# Altium schematic symbol library schematic.SchLib: 23 symbols
Pins are listed as number, name and electrical type; pins without a type are passive.

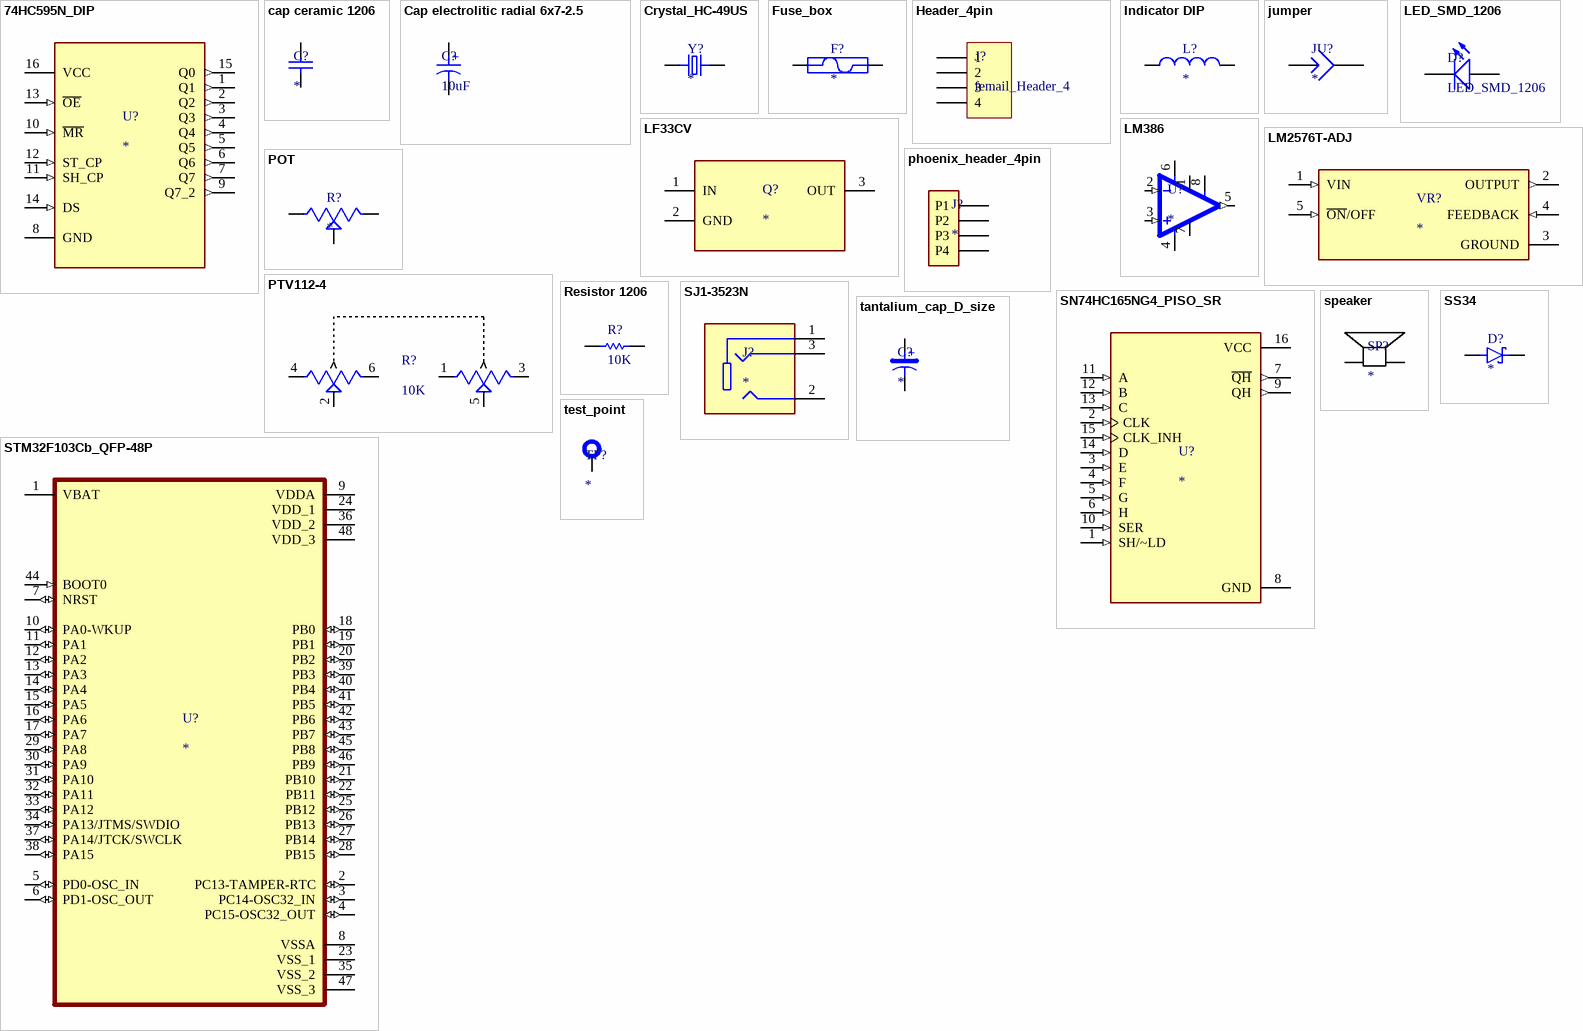
[diagram p0: symbols 74HC595N_DIP to test_point]

## 74HC595N_DIP
designator U?
Shift Shift Register 1 Element 8 Bit 16-DIP
footprint 74HC595N_DIP
pins: 1 Q1 (out), 2 Q2 (out), 3 Q3 (out), 4 Q4 (out), 5 Q5 (out), 6 Q6 (out), 7 Q7 (out), 8 GND, 9 Q7_2 (out), 10 ~{MR} (in), 11 SH_CP (in), 12 ST_CP (in), 13 ~{OE} (in), 14 DS (in), 15 Q0 (out), 16 VCC (power)

## cap ceramic 1206
designator C?
footprint cap ceramic 1206
pins: 1, 2

## Cap electrolitic radial 6x7-2.5
designator C?, comment 10uF
Cap electrolitic radial 6x7-2.5
footprint capacity
pins: 1, 2
text: +

## Crystal_HC-49US
designator Y?
footprint Crystal_HC-49US
pins: 1, 2

## Fuse_box
designator F?
Fuse + Fuse box dip
footprint Fuse_box
pins: 1, 2

## Header_4pin
designator J?, comment femail_Header_4
footprint femail_Header_4pin
pins: 1, 2, 3, 4

## Indicator DIP
designator L?
footprint Indicator_DIP
pins: 1, 2

## jumper
designator JU?
footprint jumper
pins: 1, 2

## LED_SMD_1206
designator D?
footprint LED_SMD_1206
pins: 1 K, 2 A

## LF33CV
designator Q?
Linear Voltage Regulator IC Positive Fixed 1 Output 500mA TO-220
footprint LF33CV_TO220_3
pins: 1 IN (power), 2 GND, 3 OUT (power)

## LM386
designator U?
footprint LM386
pins: 1 GAIN@1 (io), 2 -IN (in), 3 +IN (in), 4 V- (power), 5 OUT (out), 6 V+ (power), 7 BP (io), 8 GAIN@8 (io)

## LM2576T-ADJ
designator VR?
adjustable switch regulator
footprint LM2576T-ADJ_TO220
pins: 1 VIN (in), 2 OUTPUT (out), 3 GROUND (power), 4 FEEDBACK (in), 5 ~{ON}/OFF (in)

## phoenix_header_4pin
designator J?
Pluggable terminal block; socket; male; 3.5mm; angled 90Â°; ways: 4
footprint phoenix_header_4pin
pins: P1 (power), P2 (power), P3 (power), P4 (power)

## POT
designator R?
footprint POT
pins: 1 CCW, 2 W, 3 CW

## PTV112-4
designator R?, comment 10K
Stero POT
footprint PTV112-4
pins: 1, 2, 3, 4 1, 5 2, 6 3

## Resistor 1206
designator R?, comment 10K
footprint resistor 1206
pins: 1, 2

## SJ1-3523N
designator J?
input AUX
footprint SJ1-3523N
pins: 1, 2, 3

## SN74HC165NG4_PISO_SR
designator U?
Shift Shift Register 1 Element 8 Bit 16-PDIP
footprint SN74HC165NG4_PISO_SR
pins: 1 SH/~LD (in), 2 CLK (in), 3 E (in), 4 F (in), 5 G (in), 6 H (in), 7 ~{QH} (out), 8 GND (power), 9 QH (out), 10 SER (in), 11 A (in), 12 B (in), 13 C (in), 14 D (in), 15 CLK_INH (in), 16 VCC (power)

## speaker
designator SP?
footprint speaker
pins: 1 POS, 2 NEG

## SS34
designator D?
SMD schottky diode
footprint SS34_smd
pins: A, C K

## STM32F103Cb_QFP-48P
designator U?
ARMÂ® CortexÂ®-M3 STM32F1 Microcontroller IC 32-Bit Single-Core 72MHz 128KB (128K x 8) FLASH
footprint STM32F103Cb_QFP-48P
pins: 1 VBAT (power), 2 PC13-TAMPER-RTC (io), 3 PC14-OSC32_IN (io), 4 PC15-OSC32_OUT (io), 5 PD0-OSC_IN (io), 6 PD1-OSC_OUT (io), 7 NRST (io), 8 VSSA (power), 9 VDDA (power), 10 PA0-WKUP (io), 11 PA1 (io), 12 PA2 (io), 13 PA3 (io), 14 PA4 (io), 15 PA5 (io), 16 PA6 (io), 17 PA7 (io), 18 PB0 (io), 19 PB1 (io), 20 PB2 (io), 21 PB10 (io), 22 PB11 (io), 23 VSS_1 (power), 24 VDD_1 (power), 25 PB12 (io), 26 PB13 (io), 27 PB14 (io), 28 PB15 (io), 29 PA8 (io), 30 PA9 (io), 31 PA10 (io), 32 PA11 (io), 33 PA12 (io), 34 PA13/JTMS/SWDIO (io), 35 VSS_2 (power), 36 VDD_2 (power), 37 PA14/JTCK/SWCLK (io), 38 PA15 (io), 39 PB3 (io), 40 PB4 (io), 41 PB5 (io), 42 PB6 (io), 43 PB7 (io), 44 BOOT0 (in), 45 PB8 (io), 46 PB9 (io), 47 VSS_3 (power), 48 VDD_3 (power)

## tantalium_cap_D_size
designator C?
footprint Tantalium_cap_D size
pins: 1, 2
text: +

## test_point
designator TP?
footprint test_point
pins: 1